# Altium footprint library ST.PcbLib: 14 footprints
Each footprint in its own frame and in the unit in brackets; x right, y up, seen from the top. Pads: shape width x height; smd on the part's side, far side on the other; paste and mask are expansions set on the pad; w line width, h text height; cw(c..) or ccw(c..) is an arc to the next point about the centre after c.
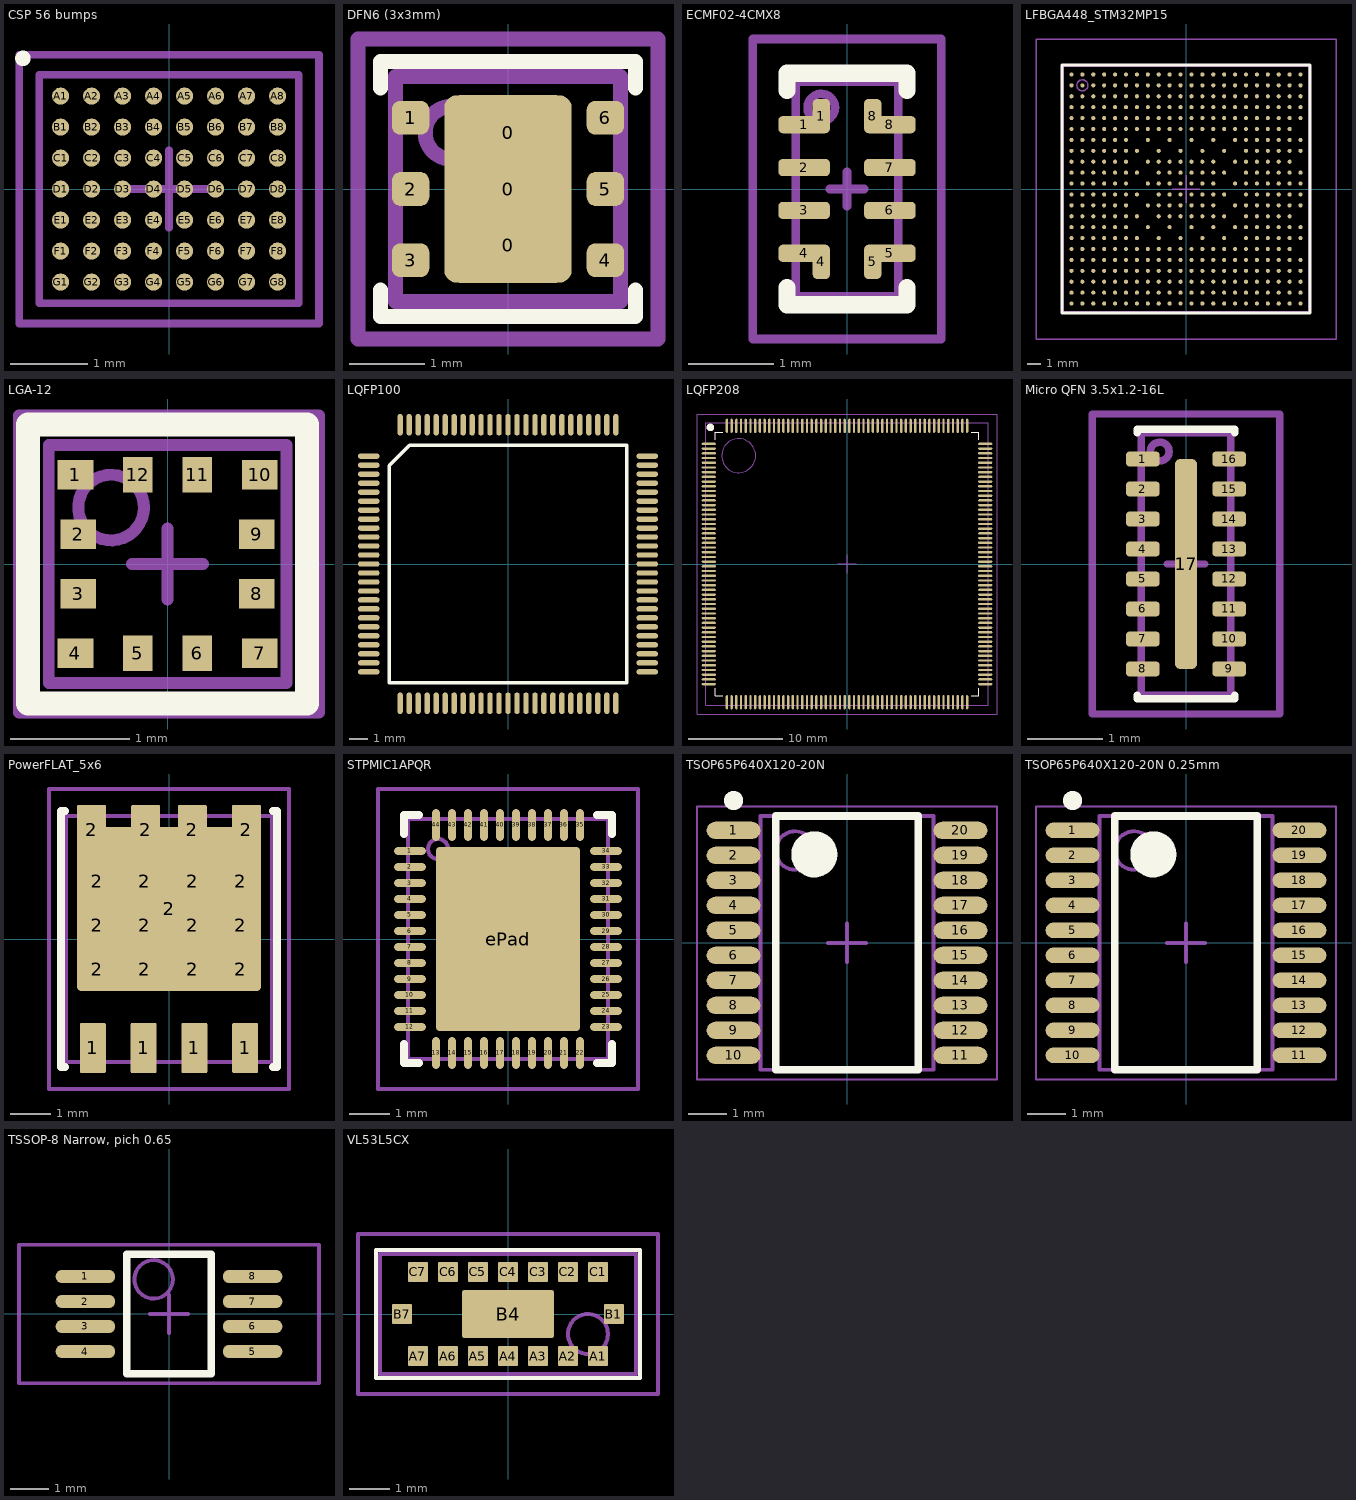
[diagram p0: the footprints below, top view; thin cyan lines are the x and y axes]

## CSP 56 bumps [mm] "BGA, 56-Leads, Body 3,0x3,4mm,  Pitch 0,40mm"
height 0.6
pads (56):
  round 0.22 smd mask+0.05: A1(-1.4,1.2) A2(-1,1.2) A3(-0.6,1.2) A4(-0.2,1.2) A5(0.2,1.2) A6(0.6,1.2) A7(1,1.2) A8(1.4,1.2) B1(-1.4,0.8) B2(-1,0.8) B3(-0.6,0.8) B4(-0.2,0.8) B5(0.2,0.8) B6(0.6,0.8) B7(1,0.8) B8(1.4,0.8) C1(-1.4,0.4) C2(-1,0.4) C3(-0.6,0.4) C4(-0.2,0.4) C5(0.2,0.4) C6(0.6,0.4) C7(1,0.4) C8(1.4,0.4) D1(-1.4,0) D2(-1,0) D3(-0.6,0) D4(-0.2,0) D5(0.2,0) D6(0.6,0) D7(1,0) D8(1.4,0) E1(-1.4,-0.4) E2(-1,-0.4) E3(-0.6,-0.4) E4(-0.2,-0.4) E5(0.2,-0.4) E6(0.6,-0.4) E7(1,-0.4) E8(1.4,-0.4) F1(-1.4,-0.8) F2(-1,-0.8) F3(-0.6,-0.8) F4(-0.2,-0.8) F5(0.2,-0.8) F6(0.6,-0.8) F7(1,-0.8) F8(1.4,-0.8) G1(-1.4,-1.2) G2(-1,-1.2) G3(-0.6,-1.2) G4(-0.2,-1.2) G5(0.2,-1.2) G6(0.6,-1.2) G7(1,-1.2) G8(1.4,-1.2)
Top Overlay:
  circle w0.1: c-1.887,1.687 r0.05
Mechanical 13:
  lines w0.1: -1.675,-1.475 -1.675,1.475 1.675,1.475 1.675,-1.475 -1.675,-1.475
Mechanical 15:
  lines w0.1: -0.5,0 0.5,0 ; 0,-0.5 0,0.5 ; -1.935,-1.735 -1.935,1.735 1.935,1.735 1.935,-1.735 -1.935,-1.735
3D body: height 0.6, standoff 0.17, extent -1.675,-1.475 1.675,1.475

## DFN6 (3x3mm) [mm] "DFN6 (3x3mm) with thermal pad, pitch 0.95"
height 0.9
pads (9):
  rrect20% 1.5x1 smd: 0(0,-0.75) 0(0,0.75)
  rrect20% 1.7x2.5 smd paste-3: 0(0,0)
  rrect50% 0.5x0.45 smd: 1(-1.3,0.95) 2(-1.3,0) 3(-1.3,-0.95) 4(1.3,-0.95) 5(1.3,0) 6(1.3,0.95)
Top Overlay:
  lines w0.2: -1.7,-1.35 -1.7,-1.7 1.7,-1.7 1.7,-1.35 ; -1.7,1.35 -1.7,1.7 1.7,1.7 1.7,1.35
Mechanical 13:
  circle w0.2: c-0.75,0.75 r0.354
  lines w0.2: -1.5,-1.5 -1.5,1.5 1.5,1.5 1.5,-1.5 -1.5,-1.5
Mechanical 15:
  lines w0.2: -0.5,0 0.5,0 ; 0,-0.5 0,0.5 ; -2,-2 2,-2 2,2 -2,2 -2,-2
3D body: height 0.9, standoff 0, extent -1.5,-1.5 1.5,1.5

## ECMF02-4CMX8 [mm] "Common mode filter with ESD protection for USB 2.0 interface"
height 0.55
pads (12):
  rrect50% 0.6x0.2 smd: 1(-0.5,0.75) 2(-0.5,0.25) 3(-0.5,-0.25) 4(-0.5,-0.75) 5(0.5,-0.75) 6(0.5,-0.25) 7(0.5,0.25) 8(0.5,0.75)
  rrect50% 0.2x0.4 smd: 1(-0.3,0.85) 4(-0.3,-0.85) 5(0.3,-0.85) 8(0.3,0.85)
Top Overlay:
  lines w0.2: -0.7,-1.15 -0.7,-1.35 0.7,-1.35 0.7,-1.15 ; -0.7,1.15 -0.7,1.35 0.7,1.35 0.7,1.15
Mechanical 13:
  circle w0.1: c-0.3,0.95 r0.16
  lines w0.1: -0.6,-1.25 0.6,-1.25 0.6,1.25 -0.6,1.25 -0.6,-1.25
Mechanical 15:
  lines w0.1: -0.2,0 0.2,0 ; 0,-0.2 0,0.2 ; -1.1,-1.75 -1.1,1.75 1.1,1.75 1.1,-1.75 -1.1,-1.75
3D body: height 0.5, standoff 0, extent -0.6,-1.25 0.6,1.25
3D body: height 0.55, standoff 0.5, extent -0.399,0.85 -0.2,1.05

## LFBGA448_STM32MP15 [mm]
height 1.32
pads (448):
  round 0.3 smd: A1(-8.4,8.4) A2(-7.6,8.4) A3(-6.8,8.4) A4(-6,8.4) A5(-5.2,8.4) A6(-4.4,8.4) A7(-3.6,8.4) A8(-2.8,8.4) A9(-2,8.4) A10(-1.2,8.4) A11(-0.4,8.4) A12(0.4,8.4) A13(1.2,8.4) A14(2,8.4) A15(2.8,8.4) A16(3.6,8.4) A17(4.4,8.4) A18(5.2,8.4) A19(6,8.4) A20(6.8,8.4) A21(7.6,8.4) A22(8.4,8.4) AA1(-8.4,-7.6) AA2(-7.6,-7.6) AA3(-6.8,-7.6) AA4(-6,-7.6) AA5(-5.2,-7.6) AA6(-4.4,-7.6) AA7(-3.6,-7.6) AA8(-2.8,-7.6) AA9(-2,-7.6) AA10(-1.2,-7.6) AA11(-0.4,-7.6) AA12(0.4,-7.6) AA13(1.2,-7.6) AA14(2,-7.6) AA15(2.8,-7.6) AA16(3.6,-7.6) AA17(4.4,-7.6) AA18(5.2,-7.6) AA19(6,-7.6) AA20(6.8,-7.6) AA21(7.6,-7.6) AA22(8.4,-7.6) AB1(-8.4,-8.4) AB2(-7.6,-8.4) AB3(-6.8,-8.4) AB4(-6,-8.4) AB5(-5.2,-8.4) AB6(-4.4,-8.4) AB7(-3.6,-8.4) AB8(-2.8,-8.4) AB9(-2,-8.4) AB10(-1.2,-8.4) AB11(-0.4,-8.4) AB12(0.4,-8.4) AB13(1.2,-8.4) AB14(2,-8.4) AB15(2.8,-8.4) AB16(3.6,-8.4) AB17(4.4,-8.4) AB18(5.2,-8.4) AB19(6,-8.4) AB20(6.8,-8.4) AB21(7.6,-8.4) AB22(8.4,-8.4) B1(-8.4,7.6) B2(-7.6,7.6) B3(-6.8,7.6) B4(-6,7.6) B5(-5.2,7.6) B6(-4.4,7.6) B7(-3.6,7.6) B8(-2.8,7.6) B9(-2,7.6) B10(-1.2,7.6) B11(-0.4,7.6) B12(0.4,7.6) B13(1.2,7.6) B14(2,7.6) B15(2.8,7.6) B16(3.6,7.6) B17(4.4,7.6) B18(5.2,7.6) B19(6,7.6) B20(6.8,7.6) B21(7.6,7.6) B22(8.4,7.6) C1(-8.4,6.8) C2(-7.6,6.8) C3(-6.8,6.8) C4(-6,6.8) C5(-5.2,6.8) C6(-4.4,6.8) C7(-3.6,6.8) C8(-2.8,6.8) C9(-2,6.8) C10(-1.2,6.8) C11(-0.4,6.8) C12(0.4,6.8) C13(1.2,6.8) C14(2,6.8) C15(2.8,6.8) C16(3.6,6.8) C17(4.4,6.8) C18(5.2,6.8) C19(6,6.8) C20(6.8,6.8) C21(7.6,6.8) C22(8.4,6.8) D1(-8.4,6) D2(-7.6,6) D3(-6.8,6) D4(-6,6) D5(-5.2,6) D6(-4.4,6) D7(-3.6,6) D8(-2.8,6) D9(-2,6) D10(-1.2,6) D11(-0.4,6) D12(0.4,6) D13(1.2,6) D14(2,6) D15(2.8,6) D16(3.6,6) D17(4.4,6) D18(5.2,6) D19(6,6) D20(6.8,6) D21(7.6,6) D22(8.4,6) E1(-8.4,5.2) E2(-7.6,5.2) E3(-6.8,5.2) E4(-6,5.2) E5(-5.2,5.2) E6(-4.4,5.2) E7(-3.6,5.2) E8(-2.8,5.2) E9(-2,5.2) E10(-1.2,5.2) E11(-0.4,5.2) E12(0.4,5.2) E13(1.2,5.2) E14(2,5.2) E15(2.8,5.2) E16(3.6,5.2) E17(4.4,5.2) E18(5.2,5.2) E19(6,5.2) E20(6.8,5.2) E21(7.6,5.2) E22(8.4,5.2) F1(-8.4,4.4) F2(-7.6,4.4) F3(-6.8,4.4) F4(-6,4.4) F5(-5.2,4.4) F6(-4.4,4.4) F7(-3.6,4.4) F8(-2.8,4.4) F9(-2,4.4) F10(-1.2,4.4) F11(-0.4,4.4) F12(0.4,4.4) F13(1.2,4.4) F14(2,4.4) F15(2.8,4.4) F16(3.6,4.4) F17(4.4,4.4) F18(5.2,4.4) F19(6,4.4) F20(6.8,4.4) F21(7.6,4.4) G1(-8.4,3.6) G2(-7.6,3.6) G3(-6.8,3.6) G4(-6,3.6) G5(-5.2,3.6) G6(-4.4,3.6) G8(-2.8,3.6) G10(-1.2,3.6) G12(0.4,3.6) G14(2,3.6) G16(3.6,3.6) G17(4.4,3.6) G18(5.2,3.6) G19(6,3.6) G20(6.8,3.6) G21(7.6,3.6) G22(8.4,3.6) H1(-8.4,2.8) H2(-7.6,2.8) H3(-6.8,2.8) H4(-6,2.8) H5(-5.2,2.8) H6(-4.4,2.8) H7(-3.6,2.8) H9(-2,2.8) H11(-0.4,2.8) H13(1.2,2.8) H15(2.8,2.8) H17(4.4,2.8) H18(5.2,2.8) H19(6,2.8) H20(6.8,2.8) H21(7.6,2.8) H22(8.4,2.8) J1(-8.4,2) J2(-7.6,2) J3(-6.8,2) J4(-6,2) J5(-5.2,2) J6(-4.4,2) J8(-2.8,2) J9(-2,2) J10(-1.2,2) J11(-0.4,2) J12(0.4,2) J13(1.2,2) J14(2,2) J16(3.6,2) J17(4.4,2) J18(5.2,2) J19(6,2) J20(6.8,2) J21(7.6,2) K1(-8.4,1.2) K2(-7.6,1.2) K3(-6.8,1.2) K4(-6,1.2) K5(-5.2,1.2) K6(-4.4,1.2) K7(-3.6,1.2) K9(-2,1.2) K10(-1.2,1.2) K11(-0.4,1.2) K12(0.4,1.2) K13(1.2,1.2) K14(2,1.2) K15(2.8,1.2) K17(4.4,1.2) K18(5.2,1.2) K19(6,1.2) K20(6.8,1.2) K21(7.6,1.2) K22(8.4,1.2) L1(-8.4,0.4) L2(-7.6,0.4) L3(-6.8,0.4) L4(-6,0.4) L5(-5.2,0.4) L6(-4.4,0.4) L8(-2.8,0.4) L9(-2,0.4) L10(-1.2,0.4) L11(-0.4,0.4) L12(0.4,0.4) L13(1.2,0.4) L14(2,0.4) L16(3.6,0.4) L17(4.4,0.4) L18(5.2,0.4) L19(6,0.4) L20(6.8,0.4) L21(7.6,0.4) L22(8.4,0.4) M1(-8.4,-0.4) M2(-7.6,-0.4) M3(-6.8,-0.4) M4(-6,-0.4) M5(-5.2,-0.4) M6(-4.4,-0.4) M7(-3.6,-0.4) M9(-2,-0.4) M10(-1.2,-0.4) M11(-0.4,-0.4) M12(0.4,-0.4) M13(1.2,-0.4) M14(2,-0.4) M15(2.8,-0.4) M17(4.4,-0.4) M18(5.2,-0.4) M19(6,-0.4) M20(6.8,-0.4) M21(7.6,-0.4) M22(8.4,-0.4) N1(-8.4,-1.2) N2(-7.6,-1.2) N3(-6.8,-1.2) N4(-6,-1.2) N5(-5.2,-1.2) N6(-4.4,-1.2) N8(-2.8,-1.2) N9(-2,-1.2) N10(-1.2,-1.2) N11(-0.4,-1.2) N12(0.4,-1.2) N13(1.2,-1.2) N14(2,-1.2) N16(3.6,-1.2) N17(4.4,-1.2) N18(5.2,-1.2) N19(6,-1.2) N20(6.8,-1.2) N21(7.6,-1.2) N22(8.4,-1.2) P1(-8.4,-2) P2(-7.6,-2) P3(-6.8,-2) P4(-6,-2) P5(-5.2,-2) P6(-4.4,-2) P7(-3.6,-2) P9(-2,-2) P10(-1.2,-2) P11(-0.4,-2) P12(0.4,-2) P13(1.2,-2) P14(2,-2) P15(2.8,-2) P17(4.4,-2) P18(5.2,-2) P19(6,-2) P20(6.8,-2) P21(7.6,-2) R1(-8.4,-2.8) R2(-7.6,-2.8) R3(-6.8,-2.8) R4(-6,-2.8) R5(-5.2,-2.8) R6(-4.4,-2.8) R8(-2.8,-2.8) R10(-1.2,-2.8) R12(0.4,-2.8) R14(2,-2.8) R16(3.6,-2.8) R17(4.4,-2.8) R18(5.2,-2.8) R19(6,-2.8) R20(6.8,-2.8) R21(7.6,-2.8) R22(8.4,-2.8) T1(-8.4,-3.6) T2(-7.6,-3.6) T3(-6.8,-3.6) T4(-6,-3.6) T5(-5.2,-3.6) T6(-4.4,-3.6) T7(-3.6,-3.6) T9(-2,-3.6) T11(-0.4,-3.6) T13(1.2,-3.6) T15(2.8,-3.6) T17(4.4,-3.6) T18(5.2,-3.6) T19(6,-3.6) T20(6.8,-3.6) T21(7.6,-3.6) T22(8.4,-3.6) U1(-8.4,-4.4) U2(-7.6,-4.4) U3(-6.8,-4.4) U4(-6,-4.4) U5(-5.2,-4.4) U6(-4.4,-4.4) U7(-3.6,-4.4) U8(-2.8,-4.4) U9(-2,-4.4) U10(-1.2,-4.4) U11(-0.4,-4.4) U12(0.4,-4.4) U13(1.2,-4.4) U14(2,-4.4) U15(2.8,-4.4) U16(3.6,-4.4) U17(4.4,-4.4) U18(5.2,-4.4) U19(6,-4.4) U20(6.8,-4.4) U21(7.6,-4.4) V1(-8.4,-5.2) V2(-7.6,-5.2) V3(-6.8,-5.2) V4(-6,-5.2) V5(-5.2,-5.2) V6(-4.4,-5.2) V7(-3.6,-5.2) V8(-2.8,-5.2) V9(-2,-5.2) V10(-1.2,-5.2) V11(-0.4,-5.2) V12(0.4,-5.2) V13(1.2,-5.2) V14(2,-5.2) V15(2.8,-5.2) V16(3.6,-5.2) V17(4.4,-5.2) V18(5.2,-5.2) V19(6,-5.2) V20(6.8,-5.2) V21(7.6,-5.2) V22(8.4,-5.2) W1(-8.4,-6) W2(-7.6,-6) W3(-6.8,-6) W4(-6,-6) W5(-5.2,-6) W6(-4.4,-6) W7(-3.6,-6) W8(-2.8,-6) W9(-2,-6) W10(-1.2,-6) W11(-0.4,-6) W12(0.4,-6) W13(1.2,-6) W14(2,-6) W15(2.8,-6) W16(3.6,-6) W17(4.4,-6) W18(5.2,-6) W19(6,-6) W20(6.8,-6) W21(7.6,-6) W22(8.4,-6) Y1(-8.4,-6.8) Y2(-7.6,-6.8) Y3(-6.8,-6.8) Y4(-6,-6.8) Y5(-5.2,-6.8) Y6(-4.4,-6.8) Y7(-3.6,-6.8) Y8(-2.8,-6.8) Y9(-2,-6.8) Y10(-1.2,-6.8) Y11(-0.4,-6.8) Y12(0.4,-6.8) Y13(1.2,-6.8) Y14(2,-6.8) Y15(2.8,-6.8) Y16(3.6,-6.8) Y17(4.4,-6.8) Y18(5.2,-6.8) Y19(6,-6.8) Y20(6.8,-6.8) Y21(7.6,-6.8) Y22(8.4,-6.8)
Top Overlay:
  lines w0.2: -9.1,-9.1 -9.1,9.1 9.1,9.1 9.1,-9.1 -9.1,-9.1
Mechanical 13:
  circle w0.1: c-7.6,7.6 r0.403
  lines w0.1: -9,-9 9,-9 9,9 -9,9 -9,-9
Mechanical 15:
  lines w0.1: -1,0 1,0 ; 0,-1 0,1 ; -11,-11 -11,11 11,11 11,-11 -11,-11
3D body: height 1.32, standoff 0.29, extent -9,-9 9,9
3D body: height 1.37, standoff 1.32, extent -8.096,7.1 -7.1,8.098

## LGA-12 [mm] "For accelerometers LIS2DH12 etc"
height 1
pads (12):
  rect 0.3x0.25 smd: 1(-0.775,0.75) 2(-0.75,0.25) 3(-0.75,-0.25) 4(-0.775,-0.75) 7(0.775,-0.75) 8(0.75,-0.25) 9(0.75,0.25) 10(0.775,0.75)
  rect 0.25x0.3 smd: 5(-0.25,-0.75) 6(0.25,-0.75) 11(0.25,0.75) 12(-0.25,0.75)
Top Overlay:
  lines w0.2: -1.175,-1.175 1.175,-1.175 1.175,1.175 -1.175,1.175 -1.175,-1.175
Assembly Text Top:
  text ".Designator" at -1.025,-1.025 h1
Assembly Top:
  circle w0.1: c-0.475,0.475 r0.276
  lines w0.1: -1,-1 1,-1 1,1 -1,1 -1,-1
Mechanical 15:
  lines w0.1: -0.3,0 0.3,0 ; 0,-0.3 0,0.3 ; -1.25,-1.25 -1.25,1.25 1.275,1.25 1.275,-1.25 -1.25,-1.25
3D body: height 1, standoff 0, extent -1,-1 1,1

## LQFP100 [mm]
pads (100):
  oval 1.2x0.3 smd: 1(-7.75,6) 2(-7.75,5.5) 3(-7.75,5) 4(-7.75,4.5) 5(-7.75,4) 6(-7.75,3.5) 7(-7.75,3) 8(-7.75,2.5) 9(-7.75,2) 10(-7.75,1.5) 11(-7.75,1) 12(-7.75,0.5) 13(-7.75,0) 14(-7.75,-0.5) 15(-7.75,-1) 16(-7.75,-1.5) 17(-7.75,-2) 18(-7.75,-2.5) 19(-7.75,-3) 20(-7.75,-3.5) 21(-7.75,-4) 22(-7.75,-4.5) 23(-7.75,-5) 24(-7.75,-5.5) 25(-7.75,-6) 51(7.75,-6) 52(7.75,-5.5) 53(7.75,-5) 54(7.75,-4.5) 55(7.75,-4) 56(7.75,-3.5) 57(7.75,-3) 58(7.75,-2.5) 59(7.75,-2) 60(7.75,-1.5) 61(7.75,-1) 62(7.75,-0.5) 63(7.75,0) 64(7.75,0.5) 65(7.75,1) 66(7.75,1.5) 67(7.75,2) 68(7.75,2.5) 69(7.75,3) 70(7.75,3.5) 71(7.75,4) 72(7.75,4.5) 73(7.75,5) 74(7.75,5.5) 75(7.75,6)
  oval 0.3x1.2 smd: 26(-6,-7.75) 27(-5.5,-7.75) 28(-5,-7.75) 29(-4.5,-7.75) 30(-4,-7.75) 31(-3.5,-7.75) 32(-3,-7.75) 33(-2.5,-7.75) 34(-2,-7.75) 35(-1.5,-7.75) 36(-1,-7.75) 37(-0.5,-7.75) 38(0,-7.75) 39(0.5,-7.75) 40(1,-7.75) 41(1.5,-7.75) 42(2,-7.75) 43(2.5,-7.75) 44(3,-7.75) 45(3.5,-7.75) 46(4,-7.75) 47(4.5,-7.75) 48(5,-7.75) 49(5.5,-7.75) 50(6,-7.75) 76(6,7.75) 77(5.5,7.75) 78(5,7.75) 79(4.5,7.75) 80(4,7.75) 81(3.5,7.75) 82(3,7.75) 83(2.5,7.75) 84(2,7.75) 85(1.5,7.75) 86(1,7.75) 87(0.5,7.75) 88(0,7.75) 89(-0.5,7.75) 90(-1,7.75) 91(-1.5,7.75) 92(-2,7.75) 93(-2.5,7.75) 94(-3,7.75) 95(-3.5,7.75) 96(-4,7.75) 97(-4.5,7.75) 98(-5,7.75) 99(-5.5,7.75) 100(-6,7.75)
Top Overlay:
  lines w0.2: -6.615,-6.615 6.615,-6.615 6.615,6.615 -5.48,6.615 -6.615,5.48 -6.615,-6.615
3D body: height 1.6, standoff 0, extent -8,-8 8,8

## LQFP208 [mm]
height 1.6
pads (208):
  oval 1.5x0.25 smd: 1(-14.675,12.75) 2(-14.675,12.25) 3(-14.675,11.75) 4(-14.675,11.25) 5(-14.675,10.75) 6(-14.675,10.25) 7(-14.675,9.75) 8(-14.675,9.25) 9(-14.675,8.75) 10(-14.675,8.25) 11(-14.675,7.75) 12(-14.675,7.25) 13(-14.675,6.75) 14(-14.675,6.25) 15(-14.675,5.75) 16(-14.675,5.25) 17(-14.675,4.75) 18(-14.675,4.25) 19(-14.675,3.75) 20(-14.675,3.25) 21(-14.675,2.75) 22(-14.675,2.25) 23(-14.675,1.75) 24(-14.675,1.25) 25(-14.675,0.75) 26(-14.675,0.25) 27(-14.675,-0.25) 28(-14.675,-0.75) 29(-14.675,-1.25) 30(-14.675,-1.75) 31(-14.675,-2.25) 32(-14.675,-2.75) 33(-14.675,-3.25) 34(-14.675,-3.75) 35(-14.675,-4.25) 36(-14.675,-4.75) 37(-14.675,-5.25) 38(-14.675,-5.75) 39(-14.675,-6.25) 40(-14.675,-6.75) 41(-14.675,-7.25) 42(-14.675,-7.75) 43(-14.675,-8.25) 44(-14.675,-8.75) 45(-14.675,-9.25) 46(-14.675,-9.75) 47(-14.675,-10.25) 48(-14.675,-10.75) 49(-14.675,-11.25) 50(-14.675,-11.75) 51(-14.675,-12.25) 52(-14.675,-12.75) 105(14.675,-12.75) 106(14.675,-12.25) 107(14.675,-11.75) 108(14.675,-11.25) 109(14.675,-10.75) 110(14.675,-10.25) 111(14.675,-9.75) 112(14.675,-9.25) 113(14.675,-8.75) 114(14.675,-8.25) 115(14.675,-7.75) 116(14.675,-7.25) 117(14.675,-6.75) 118(14.675,-6.25) 119(14.675,-5.75) 120(14.675,-5.25) 121(14.675,-4.75) 122(14.675,-4.25) 123(14.675,-3.75) 124(14.675,-3.25) 125(14.675,-2.75) 126(14.675,-2.25) 127(14.675,-1.75) 128(14.675,-1.25) 129(14.675,-0.75) 130(14.675,-0.25) 131(14.675,0.25) 132(14.675,0.75) 133(14.675,1.25) 134(14.675,1.75) 135(14.675,2.25) 136(14.675,2.75) 137(14.675,3.25) 138(14.675,3.75) 139(14.675,4.25) 140(14.675,4.75) 141(14.675,5.25) 142(14.675,5.75) 143(14.675,6.25) 144(14.675,6.75) 145(14.675,7.25) 146(14.675,7.75) 147(14.675,8.25) 148(14.675,8.75) 149(14.675,9.25) 150(14.675,9.75) 151(14.675,10.25) 152(14.675,10.75) 153(14.675,11.25) 154(14.675,11.75) 155(14.675,12.25) 156(14.675,12.75)
  oval 0.25x1.5 smd: 53(-12.75,-14.675) 54(-12.25,-14.675) 55(-11.75,-14.675) 56(-11.25,-14.675) 57(-10.75,-14.675) 58(-10.25,-14.675) 59(-9.75,-14.675) 60(-9.25,-14.675) 61(-8.75,-14.675) 62(-8.25,-14.675) 63(-7.75,-14.675) 64(-7.25,-14.675) 65(-6.75,-14.675) 66(-6.25,-14.675) 67(-5.75,-14.675) 68(-5.25,-14.675) 69(-4.75,-14.675) 70(-4.25,-14.675) 71(-3.75,-14.675) 72(-3.25,-14.675) 73(-2.75,-14.675) 74(-2.25,-14.675) 75(-1.75,-14.675) 76(-1.25,-14.675) 77(-0.75,-14.675) 78(-0.25,-14.675) 79(0.25,-14.675) 80(0.75,-14.675) 81(1.25,-14.675) 82(1.75,-14.675) 83(2.25,-14.675) 84(2.75,-14.675) 85(3.25,-14.675) 86(3.75,-14.675) 87(4.25,-14.675) 88(4.75,-14.675) 89(5.25,-14.675) 90(5.75,-14.675) 91(6.25,-14.675) 92(6.75,-14.675) 93(7.25,-14.675) 94(7.75,-14.675) 95(8.25,-14.675) 96(8.75,-14.675) 97(9.25,-14.675) 98(9.75,-14.675) 99(10.25,-14.675) 100(10.75,-14.675) 101(11.25,-14.675) 102(11.75,-14.675) 103(12.25,-14.675) 104(12.75,-14.675) 157(12.75,14.675) 158(12.25,14.675) 159(11.75,14.675) 160(11.25,14.675) 161(10.75,14.675) 162(10.25,14.675) 163(9.75,14.675) 164(9.25,14.675) 165(8.75,14.675) 166(8.25,14.675) 167(7.75,14.675) 168(7.25,14.675) 169(6.75,14.675) 170(6.25,14.675) 171(5.75,14.675) 172(5.25,14.675) 173(4.75,14.675) 174(4.25,14.675) 175(3.75,14.675) 176(3.25,14.675) 177(2.75,14.675) 178(2.25,14.675) 179(1.75,14.675) 180(1.25,14.675) 181(0.75,14.675) 182(0.25,14.675) 183(-0.25,14.675) 184(-0.75,14.675) 185(-1.25,14.675) 186(-1.75,14.675) 187(-2.25,14.675) 188(-2.75,14.675) 189(-3.25,14.675) 190(-3.75,14.675) 191(-4.25,14.675) 192(-4.75,14.675) 193(-5.25,14.675) 194(-5.75,14.675) 195(-6.25,14.675) 196(-6.75,14.675) 197(-7.25,14.675) 198(-7.75,14.675) 199(-8.25,14.675) 200(-8.75,14.675) 201(-9.25,14.675) 202(-9.75,14.675) 203(-10.25,14.675) 204(-10.75,14.675) 205(-11.25,14.675) 206(-11.75,14.675) 207(-12.25,14.675) 208(-12.75,14.675)
Top Overlay:
  circle w0.4: c-14.5,14.5 r0.2
  lines w0.127: -14,-13.21 -14,-14 -13.21,-14 ; -14,13.21 -14,14 -13.21,14 ; 13.21,-14 14,-14 14,-13.21 ; 13.21,14 14,14 14,13.21
Mechanical 13:
  circle w0.1: c-11.5,11.5 r1.803
  lines w0.1: -15,-15 15,-15 15,15 -15,15 -15,-15
Mechanical 15:
  lines w0.1: -1,0 1,0 ; 0,-1 0,1 ; -15.925,-15.925 15.925,-15.925 15.925,15.925 -15.925,15.925 -15.925,-15.925
3D body: height 1.6, standoff 0, extent -15,-15 15,15

## Micro QFN 3.5x1.2-16L [mm]
pads (17):
  rrect50% 0.45x0.2 smd: 1(-0.575,1.4) 2(-0.575,1) 3(-0.575,0.6) 4(-0.575,0.2) 5(-0.575,-0.2) 6(-0.575,-0.6) 7(-0.575,-1) 8(-0.575,-1.4) 9(0.575,-1.4) 10(0.575,-1) 11(0.575,-0.6) 12(0.575,-0.2) 13(0.575,0.2) 14(0.575,0.6) 15(0.575,1) 16(0.575,1.4)
  rrect50% 0.3x2.8 smd paste-0.05: 17(0,0)
Top Overlay:
  lines w0.1: -0.65,-1.75 -0.65,-1.8 0.65,-1.8 0.65,-1.75 ; -0.65,1.75 -0.65,1.8 0.65,1.8 0.65,1.75
Mechanical 13:
  circle w0.1: c-0.35,1.5 r0.125
  lines w0.1: -0.6,-1.75 0.6,-1.75 0.6,1.75 -0.6,1.75 -0.6,-1.75
Mechanical 15:
  lines w0.1: -0.25,0 0.25,0 ; 0,-0.25 0,0.25 ; -1.25,-2 1.25,-2 1.25,2 -1.25,2 -1.25,-2
3D body: height 0.55, standoff 0, extent -0.6,-1.75 0.6,1.75
3D body: height 0.56, standoff 0, extent -0.523,1.276 -0.124,1.675

## PowerFLAT_5x6 [mm] "PowerFLAT_5x6 single diode"
height 1
pads (21):
  rrect10% 0.65x1.25 smd: 1(-1.905,-2.725) 1(-0.635,-2.725) 1(0.635,-2.725) 1(1.905,-2.725)
  rrect10% 0.725x1.25 smd: 2(-1.937,2.725) 2(-0.585,2.725) 2(0.585,2.725) 2(1.937,2.725)
  rrect10% 1x0.9 smd: 2(-1.8,-0.75) 2(-1.8,0.35) 2(-1.8,1.45) 2(-0.6,-0.75) 2(-0.6,0.35) 2(-0.6,1.45) 2(0.6,-0.75) 2(0.6,0.35) 2(0.6,1.45) 2(1.8,-0.75) 2(1.8,0.35) 2(1.8,1.45)
  rrect5% 4.6x4.1 smd paste-3: 2(0,0.75)
Top Overlay:
  lines w0.2: -2.6,-3.2 -2.7,-3.2 -2.7,3.2 -2.6,3.2 ; 2.6,-3.2 2.7,-3.2 2.7,3.2 2.6,3.2
Mechanical 13:
  circle w0.2: c0,2 r0.6
  lines w0.1: -2.575,-3.075 -2.575,3.075 2.575,3.075 2.575,-3.075 -2.575,-3.075
Mechanical 15:
  lines w0.1: -0.5,0 0.5,0 ; 0,-0.5 0,0.5 ; -3,-3.75 -3,3.75 3,3.75 3,-3.75 -3,-3.75
3D body: height 1.04, standoff 0, extent -2.575,-3.075 2.575,3.075
3D body: height 1.2, standoff 0.1, extent -0.595,1.401 0.6,2.599
3D body: height 1.05, standoff 0.1, extent -2.3,-2.8 2.25,-1.8

## STPMIC1APQR [mm] "Highly integrated power management IC for micro processor units"
height 0.8
pads (93):
  oval 0.8x0.2 smd: 1(-2.45,2.2) 2(-2.45,1.8) 3(-2.45,1.4) 4(-2.45,1) 5(-2.45,0.6) 6(-2.45,0.2) 7(-2.45,-0.2) 8(-2.45,-0.6) 9(-2.45,-1) 10(-2.45,-1.4) 11(-2.45,-1.8) 12(-2.45,-2.2) 23(2.45,-2.2) 24(2.45,-1.8) 25(2.45,-1.4) 26(2.45,-1) 27(2.45,-0.6) 28(2.45,-0.2) 29(2.45,0.2) 30(2.45,0.6) 31(2.45,1) 32(2.45,1.4) 33(2.45,1.8) 34(2.45,2.2)
  oval 0.2x0.8 smd: 13(-1.8,-2.85) 14(-1.4,-2.85) 15(-1,-2.85) 16(-0.6,-2.85) 17(-0.2,-2.85) 18(0.2,-2.85) 19(0.6,-2.85) 20(1,-2.85) 21(1.4,-2.85) 22(1.8,-2.85) 35(1.8,2.85) 36(1.4,2.85) 37(1,2.85) 38(0.6,2.85) 39(0.2,2.85) 40(-0.2,2.85) 41(-0.6,2.85) 42(-1,2.85) 43(-1.4,2.85) 44(-1.8,2.85)
  rrect20% 0.4x0.375 smd: ePad(-1.5,-2.025) ePad(-1.5,-1.45) ePad(-1.5,-0.875) ePad(-1.5,-0.3) ePad(-1.5,0.275) ePad(-1.5,0.85) ePad(-1.5,1.425) ePad(-0.9,-2.025) ePad(-0.9,-1.45) ePad(-0.9,-0.875) ePad(-0.9,-0.3) ePad(-0.9,0.275) ePad(-0.9,0.85) ePad(-0.9,1.425) ePad(-0.9,2) ePad(-0.3,-2.025) ePad(-0.3,-1.45) ePad(-0.3,-0.875) ePad(-0.3,-0.3) ePad(-0.3,0.275) ePad(-0.3,0.85) ePad(-0.3,1.425) ePad(-0.3,2) ePad(0.3,-2.025) ePad(0.3,-1.45) ePad(0.3,-0.875) ePad(0.3,-0.3) ePad(0.3,0.275) ePad(0.3,0.85) ePad(0.3,1.425) ePad(0.3,2) ePad(0.9,-2.025) ePad(0.9,-1.45) ePad(0.9,-0.875) ePad(0.9,-0.3) ePad(0.9,0.275) ePad(0.9,0.85) ePad(0.9,1.425) ePad(0.9,2) ePad(1.5,-2.025) ePad(1.5,-1.45) ePad(1.5,-0.875) ePad(1.5,-0.3) ePad(1.5,0.275) ePad(1.5,0.85) ePad(1.5,1.425) ePad(1.5,2)
  rrect25% 0.4x0.375 smd: ePad(-1.5,2)
  rrect5% 3.6x4.6 smd paste-1.8: ePad(0,0)
Top Overlay:
  lines w0.2: -2.6,-2.625 -2.6,-3.1 -2.225,-3.1 ; -2.6,2.625 -2.6,3.1 -2.225,3.1 ; 2.225,-3.1 2.6,-3.1 2.6,-2.625 ; 2.225,3.1 2.6,3.1 2.6,2.625
Mechanical 13:
  circle w0.1: c-1.75,2.25 r0.25
  lines w0.1: -2.5,-3 2.5,-3 2.5,3 -2.5,3 -2.5,-3
Mechanical 15:
  lines w0.1: -0.5,0 0.5,0 ; 0,-0.5 0,0.5 ; -3.25,-3.75 -3.25,3.75 3.25,3.75 3.25,-3.75 -3.25,-3.75
3D body: height 0.8, standoff 0.02, extent -2.5,-3 2.5,3
3D body: height 0.85, standoff 0.8, extent -1.998,2.001 -1.5,2.5

## TSOP65P640X120-20N [mm] "TSOP, 20-Leads, Body 6,50x4,40mm, Pitch 0,65mm, IPC Medium Density"
height 1.2
pads (20):
  oval 1.4x0.45 smd: 1(-2.95,2.925) 2(-2.95,2.275) 3(-2.95,1.625) 4(-2.95,0.975) 5(-2.95,0.325) 6(-2.95,-0.325) 7(-2.95,-0.975) 8(-2.95,-1.625) 9(-2.95,-2.275) 10(-2.95,-2.925) 11(2.95,-2.925) 12(2.95,-2.275) 13(2.95,-1.625) 14(2.95,-0.975) 15(2.95,-0.325) 16(2.95,0.325) 17(2.95,0.975) 18(2.95,1.625) 19(2.95,2.275) 20(2.95,2.925)
Top Overlay:
  circle w0.6: c-0.85,2.3 r0.3
  circle w0.25: c-2.95,3.7 r0.125
  lines w0.2: -1.85,-3.3 1.85,-3.3 1.85,3.3 -1.85,3.3 -1.85,-3.3
Mechanical 13:
  circle w0.1: c-1.35,2.4 r0.5
  lines w0.1: -2.25,-3.3 2.25,-3.3 2.25,3.3 -2.25,3.3 -2.25,-3.3
Mechanical 15:
  lines w0.05: -3.9,-3.55 3.9,-3.55 3.9,3.55 -3.9,3.55 -3.9,-3.55
  lines w0.1: -0.5,0 0.5,0 ; 0,-0.5 0,0.5
3D body: height 1.2, standoff 0, extent -3.2,-3.3 3.2,3.3

## TSOP65P640X120-20N 0.25mm [mm] "TSOP, 20-Leads, Body 6,50x4,40mm, Pitch 0,65mm, IPC Medium Density"
height 1.2
pads (20):
  oval 1.4x0.4 smd: 1(-2.95,2.925) 2(-2.95,2.275) 3(-2.95,1.625) 4(-2.95,0.975) 5(-2.95,0.325) 6(-2.95,-0.325) 7(-2.95,-0.975) 8(-2.95,-1.625) 9(-2.95,-2.275) 10(-2.95,-2.925) 11(2.95,-2.925) 12(2.95,-2.275) 13(2.95,-1.625) 14(2.95,-0.975) 15(2.95,-0.325) 16(2.95,0.325) 17(2.95,0.975) 18(2.95,1.625) 19(2.95,2.275) 20(2.95,2.925)
Top Overlay:
  circle w0.6: c-0.85,2.3 r0.3
  circle w0.25: c-2.95,3.7 r0.125
  lines w0.2: -1.85,-3.3 1.85,-3.3 1.85,3.3 -1.85,3.3 -1.85,-3.3
Mechanical 13:
  circle w0.1: c-1.35,2.4 r0.5
  lines w0.1: -2.25,-3.3 2.25,-3.3 2.25,3.3 -2.25,3.3 -2.25,-3.3
Mechanical 15:
  lines w0.05: -3.9,-3.55 3.9,-3.55 3.9,3.55 -3.9,3.55 -3.9,-3.55
  lines w0.1: -0.5,0 0.5,0 ; 0,-0.5 0,0.5
3D body: height 1.2, standoff 0, extent -3.2,-3.3 3.2,3.3

## TSSOP-8 Narrow, pich 0.65 [mm] "TSOP, 8-Leads, Body 3.1x3.1mm (max), Pitch 0.65mm"
height 1.2
pads (8):
  oval 1.55x0.35 smd: 1(-2.175,0.975) 2(-2.175,0.325) 3(-2.175,-0.325) 4(-2.175,-0.975) 5(2.175,-0.975) 6(2.175,-0.325) 7(2.175,0.325) 8(2.175,0.975)
Top Overlay:
  lines w0.2: -1.1,-1.55 -1.1,1.55 1.1,1.55 1.1,-1.55 -1.1,-1.55
Mechanical 13:
  circle w0.1: c-0.4,0.9 r0.5
  lines w0.1: -1.1,-1.55 1.1,-1.55 1.1,1.55 -1.1,1.55 -1.1,-1.55
Mechanical 15:
  lines w0.1: -0.5,0 0.5,0 ; 0,-0.5 0,0.5 ; -3.9,-1.8 3.9,-1.8 3.9,1.8 -3.9,1.8 -3.9,-1.8
3D body: height 1.1, standoff 0, extent -2.5,-1.55 2.5,1.55

## VL53L5CX [mm] "6.4 x 3.0 x 1.5 mm LGA"
height 1.6
pads (17):
  rrect10% 0.5x0.5 smd: A1(2.25,-1.05) A2(1.5,-1.05) A3(0.75,-1.05) A4(0,-1.05) A5(-0.75,-1.05) A6(-1.5,-1.05) A7(-2.25,-1.05) B1(2.65,0) B7(-2.65,0) C1(2.25,1.05) C2(1.5,1.05) C3(0.75,1.05) C4(0,1.05) C5(-0.75,1.05) C6(-1.5,1.05) C7(-2.25,1.05)
  rrect10% 2.3x1.2 smd: B4(0,0)
Top Overlay:
  lines w0.1: -3.3,-1.6 -3.3,1.6 3.3,1.6 3.3,-1.6 -3.3,-1.6
Mechanical 13:
  circle w0.1: c2,-0.5 r0.5
  lines w0.1: -3.2,-1.5 3.2,-1.5 3.2,1.5 -3.2,1.5 -3.2,-1.5
Mechanical 15:
  lines w0.1: -0.25,0 0.25,0 ; 0,-0.25 0,0.25 ; -3.75,-2 3.75,-2 3.75,2 -3.75,2 -3.75,-2
3D body: height 1.5, standoff 0, extent -3.2,-1.5 3.2,1.5